# Altium footprint library KR-5R5V334-R.PcbLib: 1 footprints
Each footprint in its own frame and in the unit in brackets; x right, y up, seen from the top. Pads: shape width x height; smd on the part's side, far side on the other; paste and mask are expansions set on the pad; w line width, h text height; cw(c..) or ccw(c..) is an arc to the next point about the centre after c.
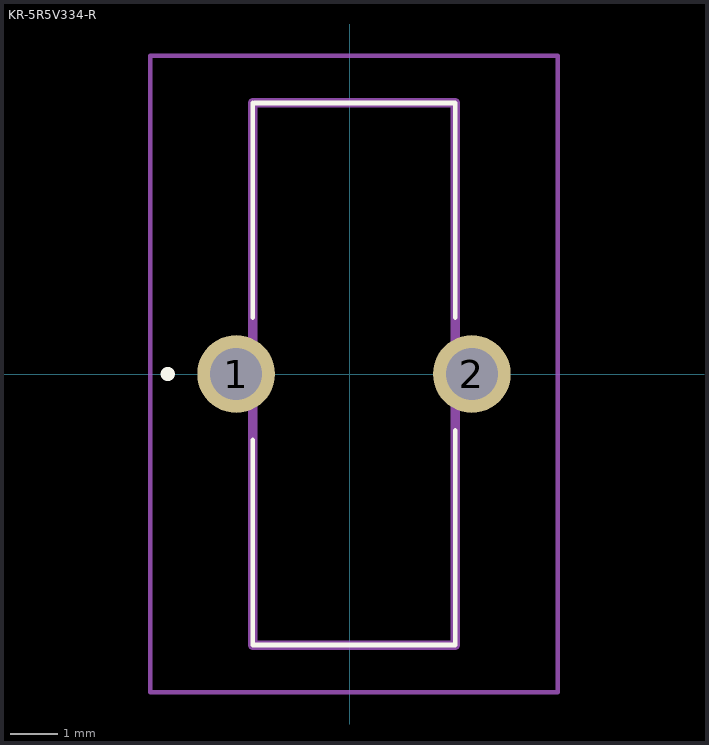
[diagram p0: the footprint, top view; thin cyan lines are the x and y axes]

## KR-5R5V334-R [mm]
pads (2):
  round 1.65 hole 1.1: 1(-2.413,0) 2(2.587,0)
Top Overlay:
  lines w0.1: -2.063,-5.75 -2.063,-1.4 -2.063,-5.75 ; -2.063,-5.75 2.237,-5.75 ; -2.063,-5.75 2.237,-5.75 ; 2.237,-5.75 2.237,-1.2 2.237,-5.75 ; 2.237,5.75 2.237,1.2 2.237,5.75 ; 2.237,5.75 -2.013,5.75 2.237,5.75 ; -2.063,1.2 -2.063,5.75 -2.063,1.2
  lines w0.2: -3.913,0 ccw(c-3.863,0) -3.813,0 ; -3.913,0 cw(c-3.863,0) -3.813,0 ; -3.913,0 ccw(c-3.863,0) -3.813,0
Top 3D Body:
  lines w0.2: -2.063,-5.75 -2.063,5.75 2.237,5.75 2.237,-5.75 -2.063,-5.75
Top Courtyard:
  lines w0.1: -4.238,-6.75 -4.238,6.75 4.412,6.75 4.412,-6.75 -4.238,-6.75
3D body "KR-5R5V334-R.stp": height 12.75, standoff -3.7, extent -2.45,-5.75 2.75,5.75